# Altium integrated library TI Power Management Power Modules.IntLib: 831 symbols (part 24 of 44)
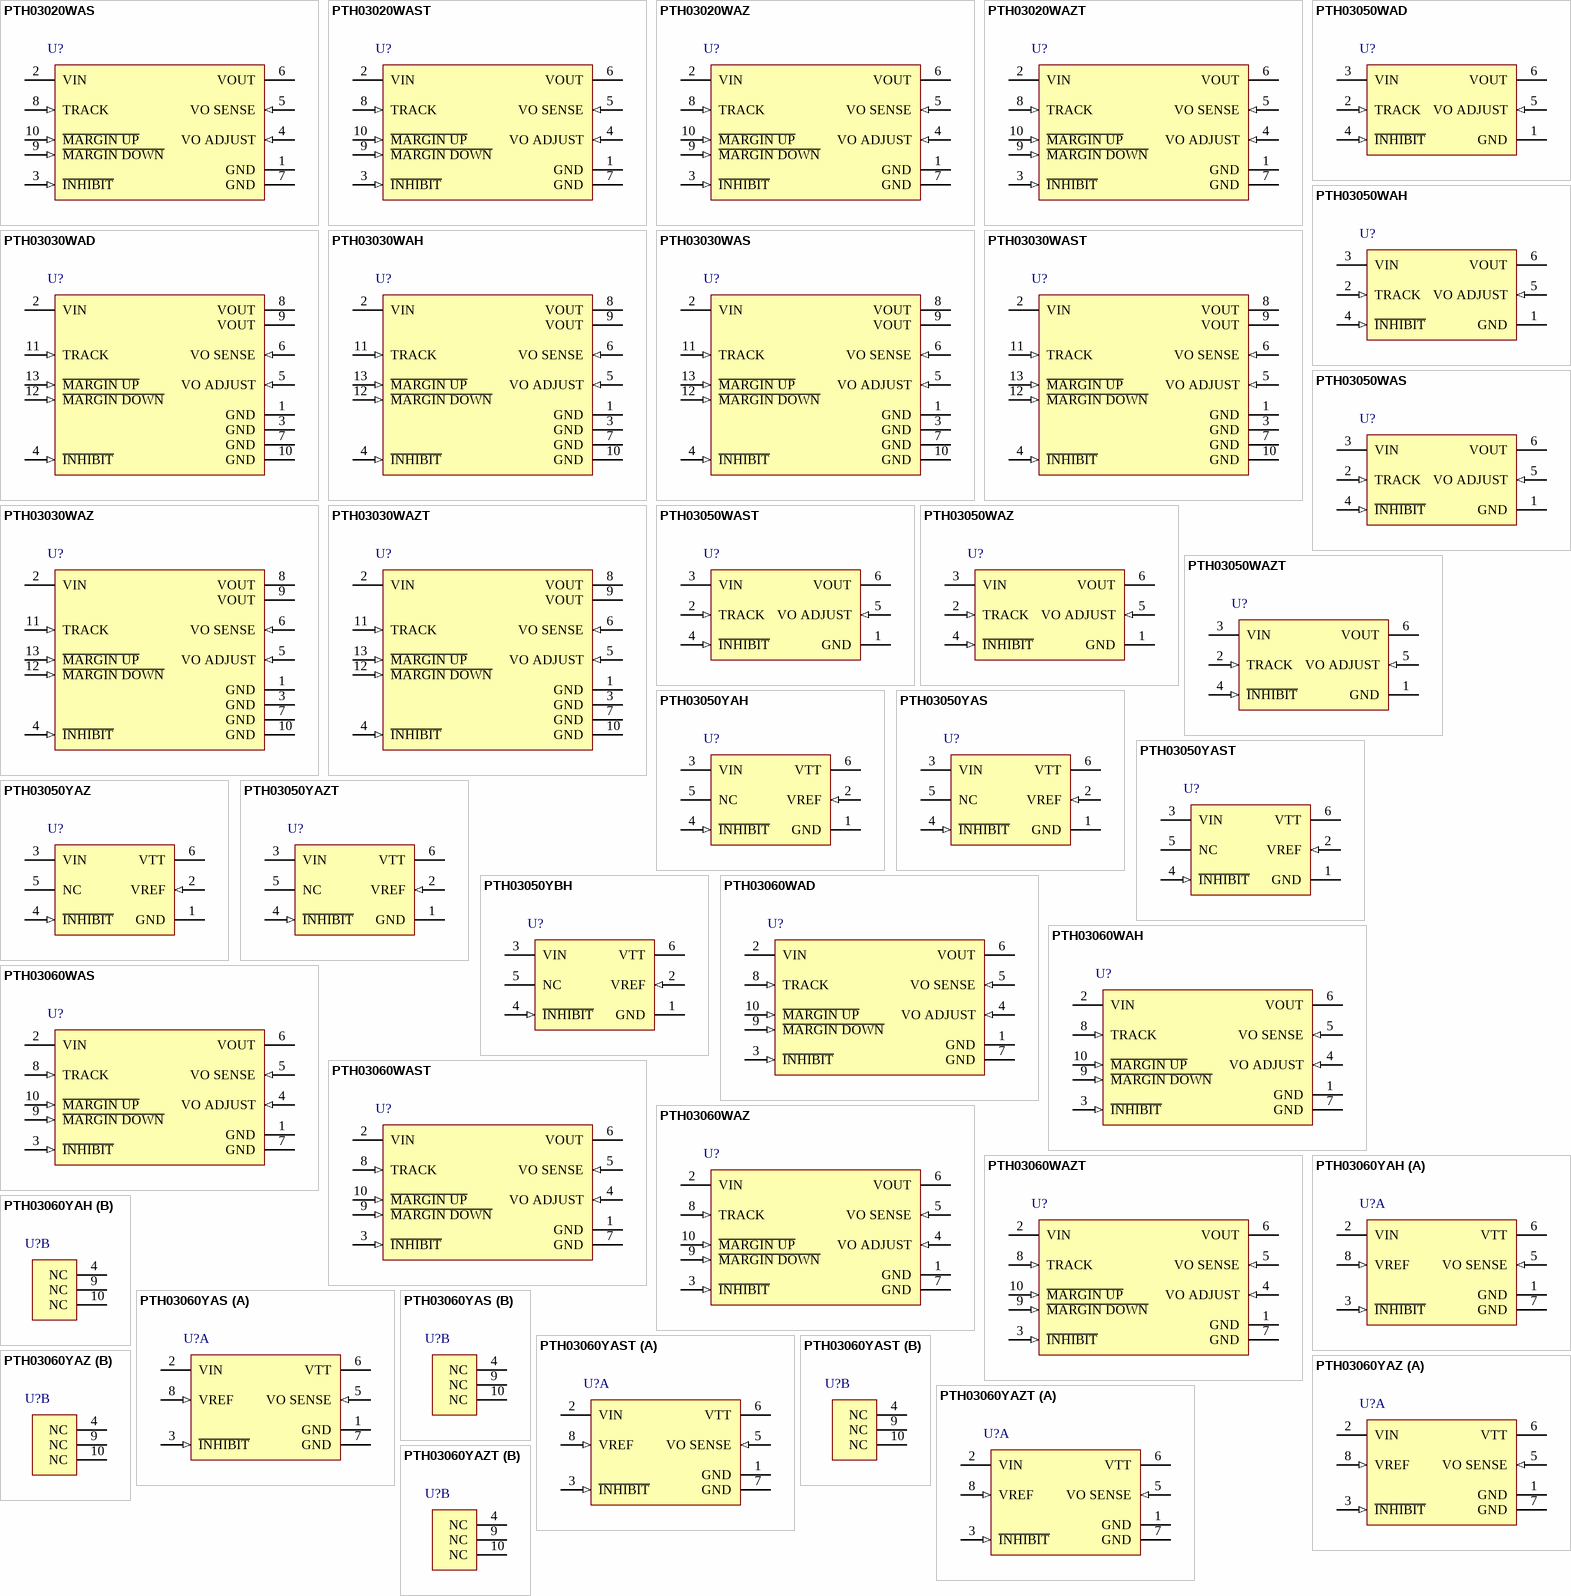
[diagram p46: symbols PTH03020WAS to PTH03060YAZT]

## PTH03060WAS
designator U?
10 A, 3.3 V Input Non-Isolated Wide Adjust Module, -40 to 85 degC, 10-pin Module (EUY10); Manufacturer: Texas Instruments; PartNumber: PTH03060WAS; Eco-Plan: TBD; Iout(Max)(A): 10; Regulated Outputs(#): 1; SubFamily: Non-Isolated POL; Vin(Max)(V): 3.65; Vin(Min)(V): 2.95; VO Adjustable: TRUE; Vout(Max)(V): 2.5; Vout(Min)(V): 0.8; DatasheetVersion: SLTS215B; PackageVersion: 4205249-3/B; PackageReference: EUY10; PackageDescription: 10-Pin Plastic Special Shape, Body 15.75 x 25.27 mm; Supplier 1: Digi-Key; Supplier Part Number 1: 296-20386-ND; Supplier 2: Mouser; Supplier Part Number 2: 595-PTH03060WAS; Mounting Technology: Surface Mount; ComponentLink1Description: Manufacturer URL; ComponentLink1URL: http://www.ti.com/; ComponentLink2Description: Datasheet; ComponentLink2URL: http://www.ti.com/general/docs/lit/getliterature.tsp?genericPartNumber=PTH03060W&fileType=pdf; ComponentLink3Description: Package Specification; ComponentLink3URL: http://www.ti.com/lit/ml/mpds145a/mpds145a.pdf; ComponentLink4Description: URL Link1; ComponentLink4URL: Samples URL:http://www.ti.com/product/pth03060w#samples
footprint TI-EUY10_V (Module, 10-Leads, Body 25.27x15.75mm)
pins: 1 GND (power) "This is the common ground connection for the Vin and Vout power connections. It is also the 0 VDC reference for the control inputs", 2 VIN (power) "The positive input voltage power node to the module, which is referenced to common GND.", 3 ~{INHIBIT} (in) "The Inhibit pin is an open-collector/drain negative logic input that is referenced to GND. Applying a lowlevel ground signal to this input disables the module’s output and turns off the output voltage. When the Inhibit (See Datasheet)", 4 VO ADJUST (in) "A 0.1 W 1 % resistor must be directly connected between this pin and pin 7 (GND) to set the output voltage to a value higher than 0.8 V. The temperature stability of the resistor should be 100 ppm/degreesC (or better). The (See Datasheet)", 5 VO SENSE (in) "The sense input allows the regulation circuit to compensate for voltage drop between the module and the load. For optimal voltage accuracy Vo Sense should be connected to Vout. It can also be left disconnected.", 6 VOUT (power) "The regulated positive power output with respect to the GND node.", 7 GND (power) "This is the common ground connection for the Vin and Vout power connections. It is also the 0 VDC reference for the control inputs.", 8 TRACK (in) "This is an analog control input that enables the output voltage to follow an external voltage. This pin becomes active typically 20 ms after the input voltage has been applied, and allows direct control of the output voltage (See Datasheet)", 9 ~{MARGIN DOWN} (in) "When this input is asserted to GND, the output voltage is decreased by 5% from the nominal. The input requires an open-collector (open-drain) interface. It is not TTL compatible. A lower percent change can be accomodated (See Datasheet)", 10 ~{MARGIN UP} (in) "When this input is asserted to GND, the output voltage is increased by 5%. The input requires an open-collector (open-drain) interface. It is not TTL compatible. The percent change can be reduced with a series resistor. For (See Datasheet)"

## PTH03060WAST
designator U?
10 A, 3.3 V Input Non-Isolated Wide Adjust Module, -40 to 85 degC, 10-pin Module (EUY10); Manufacturer: Texas Instruments; PartNumber: PTH03060WAST; Eco-Plan: TBD; Iout(Max)(A): 10; Regulated Outputs(#): 1; SubFamily: Non-Isolated POL; Vin(Max)(V): 3.65; Vin(Min)(V): 2.95; VO Adjustable: TRUE; Vout(Max)(V): 2.5; Vout(Min)(V): 0.8; DatasheetVersion: SLTS215B; PackageVersion: 4205249-3/B; PackageReference: EUY10; PackageDescription: 10-Pin Plastic Special Shape, Body 15.75 x 25.27 mm; Supplier 1: Digi-Key; Supplier Part Number 1: PTH03060WAST-ND; Supplier 2: Newark; Supplier Part Number 2: 01J0628; Supplier 3: Mouser; Supplier Part Number 3: 595-PTH03060WAST; Mounting Technology: Surface Mount; ComponentLink1Description: Manufacturer URL; ComponentLink1URL: http://www.ti.com/; ComponentLink2Description: Datasheet; ComponentLink2URL: http://www.ti.com/general/docs/lit/getliterature.tsp?genericPartNumber=PTH03060W&fileType=pdf; ComponentLink3Description: Package Specification; ComponentLink3URL: http://www.ti.com/lit/ml/mpds145a/mpds145a.pdf; ComponentLink4Description: URL Link1; ComponentLink4URL: Samples URL:http://www.ti.com/product/pth03060w#samples
footprint TI-EUY10_V (Module, 10-Leads, Body 25.27x15.75mm)
pins: 1 GND (power) "This is the common ground connection for the Vin and Vout power connections. It is also the 0 VDC reference for the control inputs", 2 VIN (power) "The positive input voltage power node to the module, which is referenced to common GND.", 3 ~{INHIBIT} (in) "The Inhibit pin is an open-collector/drain negative logic input that is referenced to GND. Applying a lowlevel ground signal to this input disables the module’s output and turns off the output voltage. When the Inhibit (See Datasheet)", 4 VO ADJUST (in) "A 0.1 W 1 % resistor must be directly connected between this pin and pin 7 (GND) to set the output voltage to a value higher than 0.8 V. The temperature stability of the resistor should be 100 ppm/degreesC (or better). The (See Datasheet)", 5 VO SENSE (in) "The sense input allows the regulation circuit to compensate for voltage drop between the module and the load. For optimal voltage accuracy Vo Sense should be connected to Vout. It can also be left disconnected.", 6 VOUT (power) "The regulated positive power output with respect to the GND node.", 7 GND (power) "This is the common ground connection for the Vin and Vout power connections. It is also the 0 VDC reference for the control inputs.", 8 TRACK (in) "This is an analog control input that enables the output voltage to follow an external voltage. This pin becomes active typically 20 ms after the input voltage has been applied, and allows direct control of the output voltage (See Datasheet)", 9 ~{MARGIN DOWN} (in) "When this input is asserted to GND, the output voltage is decreased by 5% from the nominal. The input requires an open-collector (open-drain) interface. It is not TTL compatible. A lower percent change can be accomodated (See Datasheet)", 10 ~{MARGIN UP} (in) "When this input is asserted to GND, the output voltage is increased by 5%. The input requires an open-collector (open-drain) interface. It is not TTL compatible. The percent change can be reduced with a series resistor. For (See Datasheet)"

## PTH03060WAZ
designator U?
10 A, 3.3 V Input Non-Isolated Wide Adjust Module, -40 to 85 degC, 10-pin Module (EUY10), Pb-Free (RoHS); Manufacturer: Texas Instruments; PartNumber: PTH03060WAZ; Iout(Max)(A): 10; Regulated Outputs(#): 1; SubFamily: Non-Isolated POL; Vin(Max)(V): 3.65; Vin(Min)(V): 2.95; VO Adjustable: TRUE; Vout(Max)(V): 2.5; Vout(Min)(V): 0.8; DatasheetVersion: SLTS215B; PackageVersion: 4205249-3/B; PackageReference: EUY10; PackageDescription: 10-Pin Plastic Special Shape, Body 15.75 x 25.27 mm; Supplier 1: Digi-Key; Supplier Part Number 1: 296-20387-ND; Supplier 2: Farnell; Supplier Part Number 2: 1103276; Supplier 3: Newark; Supplier Part Number 3: 97K7857; Supplier 4: Newark; Supplier Part Number 4: 37K0707; Supplier 5: Mouser; Supplier Part Number 5: 595-PTH03060WAZ; Eco-Plan: Pb-Free (RoHS); Mounting Technology: Surface Mount; ComponentLink1Description: Manufacturer URL; ComponentLink1URL: http://www.ti.com/; ComponentLink2Description: Datasheet; ComponentLink2URL: http://www.ti.com/general/docs/lit/getliterature.tsp?genericPartNumber=PTH03060W&fileType=pdf; ComponentLink3Description: Package Specification; ComponentLink3URL: http://www.ti.com/lit/ml/mpds145a/mpds145a.pdf; ComponentLink4Description: URL Link1; ComponentLink4URL: Samples URL:http://www.ti.com/product/pth03060w#samples
footprint TI-EUY10_V (Module, 10-Leads, Body 25.27x15.75mm)
pins: 1 GND (power) "This is the common ground connection for the Vin and Vout power connections. It is also the 0 VDC reference for the control inputs", 2 VIN (power) "The positive input voltage power node to the module, which is referenced to common GND.", 3 ~{INHIBIT} (in) "The Inhibit pin is an open-collector/drain negative logic input that is referenced to GND. Applying a lowlevel ground signal to this input disables the module’s output and turns off the output voltage. When the Inhibit (See Datasheet)", 4 VO ADJUST (in) "A 0.1 W 1 % resistor must be directly connected between this pin and pin 7 (GND) to set the output voltage to a value higher than 0.8 V. The temperature stability of the resistor should be 100 ppm/degreesC (or better). The (See Datasheet)", 5 VO SENSE (in) "The sense input allows the regulation circuit to compensate for voltage drop between the module and the load. For optimal voltage accuracy Vo Sense should be connected to Vout. It can also be left disconnected.", 6 VOUT (power) "The regulated positive power output with respect to the GND node.", 7 GND (power) "This is the common ground connection for the Vin and Vout power connections. It is also the 0 VDC reference for the control inputs.", 8 TRACK (in) "This is an analog control input that enables the output voltage to follow an external voltage. This pin becomes active typically 20 ms after the input voltage has been applied, and allows direct control of the output voltage (See Datasheet)", 9 ~{MARGIN DOWN} (in) "When this input is asserted to GND, the output voltage is decreased by 5% from the nominal. The input requires an open-collector (open-drain) interface. It is not TTL compatible. A lower percent change can be accomodated (See Datasheet)", 10 ~{MARGIN UP} (in) "When this input is asserted to GND, the output voltage is increased by 5%. The input requires an open-collector (open-drain) interface. It is not TTL compatible. The percent change can be reduced with a series resistor. For (See Datasheet)"

## PTH03060WAZT
designator U?
10 A, 3.3 V Input Non-Isolated Wide Adjust Module, -40 to 85 degC, 10-pin Module (EUY10), Pb-Free (RoHS); Manufacturer: Texas Instruments; PartNumber: PTH03060WAZT; Iout(Max)(A): 10; Regulated Outputs(#): 1; SubFamily: Non-Isolated POL; Vin(Max)(V): 3.65; Vin(Min)(V): 2.95; VO Adjustable: TRUE; Vout(Max)(V): 2.5; Vout(Min)(V): 0.8; DatasheetVersion: SLTS215B; PackageVersion: 4205249-3/B; PackageReference: EUY10; PackageDescription: 10-Pin Plastic Special Shape, Body 15.75 x 25.27 mm; Supplier 1: Digi-Key; Supplier Part Number 1: PTH03060WAZT-ND; Supplier 2: Newark; Supplier Part Number 2: 37K0708; Supplier 3: Mouser; Supplier Part Number 3: 595-PTH03060WAZT; Eco-Plan: Pb-Free (RoHS); Mounting Technology: Surface Mount; ComponentLink1Description: Manufacturer URL; ComponentLink1URL: http://www.ti.com/; ComponentLink2Description: Datasheet; ComponentLink2URL: http://www.ti.com/general/docs/lit/getliterature.tsp?genericPartNumber=PTH03060W&fileType=pdf; ComponentLink3Description: Package Specification; ComponentLink3URL: http://www.ti.com/lit/ml/mpds145a/mpds145a.pdf; ComponentLink4Description: URL Link1; ComponentLink4URL: Samples URL:http://www.ti.com/product/tps55010#samples
footprint TI-EUY10_V (Module, 10-Leads, Body 25.27x15.75mm)
pins: 1 GND (power) "This is the common ground connection for the Vin and Vout power connections. It is also the 0 VDC reference for the control inputs", 2 VIN (power) "The positive input voltage power node to the module, which is referenced to common GND.", 3 ~{INHIBIT} (in) "The Inhibit pin is an open-collector/drain negative logic input that is referenced to GND. Applying a lowlevel ground signal to this input disables the module’s output and turns off the output voltage. When the Inhibit (See Datasheet)", 4 VO ADJUST (in) "A 0.1 W 1 % resistor must be directly connected between this pin and pin 7 (GND) to set the output voltage to a value higher than 0.8 V. The temperature stability of the resistor should be 100 ppm/degreesC (or better). The (See Datasheet)", 5 VO SENSE (in) "The sense input allows the regulation circuit to compensate for voltage drop between the module and the load. For optimal voltage accuracy Vo Sense should be connected to Vout. It can also be left disconnected.", 6 VOUT (power) "The regulated positive power output with respect to the GND node.", 7 GND (power) "This is the common ground connection for the Vin and Vout power connections. It is also the 0 VDC reference for the control inputs.", 8 TRACK (in) "This is an analog control input that enables the output voltage to follow an external voltage. This pin becomes active typically 20 ms after the input voltage has been applied, and allows direct control of the output voltage (See Datasheet)", 9 ~{MARGIN DOWN} (in) "When this input is asserted to GND, the output voltage is decreased by 5% from the nominal. The input requires an open-collector (open-drain) interface. It is not TTL compatible. A lower percent change can be accomodated (See Datasheet)", 10 ~{MARGIN UP} (in) "When this input is asserted to GND, the output voltage is increased by 5%. The input requires an open-collector (open-drain) interface. It is not TTL compatible. The percent change can be reduced with a series resistor. For (See Datasheet)"

## PTH03060YAH
designator U?
10 A 3.3 V Input Bus Termination Power Module for DDR / QDR Memory, -40 to 85 degC, 10-pin Module (EUW10), Pb-Free (RoHS); Manufacturer: Texas Instruments; PartNumber: PTH03060YAH; Iout(Max)(A): 10; Regulated Outputs(#): 1; SubFamily: Non-Isolated POL; Vin(Max)(V): 3.65; Vin(Min)(V): 2.95; Vout(Max)(V): 1.8; Vout(Min)(V): 0.55; DatasheetVersion: SLTS222A; PackageVersion: 4205248-3/B; PackageReference: EUW10; PackageDescription: 10-Pin Plastic Special Shape, Body 15.75 x 25.27 mm; Supplier 1: Digi-Key; Supplier Part Number 1: 296-19805-ND; Supplier 2: Newark; Supplier Part Number 2: 10J9544; Supplier 3: Mouser; Supplier Part Number 3: 595-PTH03060YAH; Eco-Plan: Pb-Free (RoHS); Mounting Technology: Through Hole; ComponentLink1Description: Manufacturer URL; ComponentLink1URL: http://www.ti.com/; ComponentLink2Description: Datasheet; ComponentLink2URL: http://www.ti.com/general/docs/lit/getliterature.tsp?genericPartNumber=PTH03060Y&fileType=pdf; ComponentLink3Description: Package Specification; ComponentLink3URL: http://www.ti.com/litv/pdf/mpds144a; ComponentLink4Description: URL Link1; ComponentLink4URL: Samples URL:http://www.ti.com/product/pth03060y#samples
footprint TI-EUW10_V (Module, 10-Leads, Body 25.27x15.75mm)
part A pins: 1 GND (power) "This is the common ground connection for the VIN and VTT power connections. It is also the 0-VDC reference for the control inputs.", 2 VIN (power) "The positive input voltage power node to the module, which is referenced to common GND.", 3 ~{INHIBIT} (in) "The Inhibit pin is an open-collector/drain negative logic input that is referenced to GND. Applying a low-level ground signal to this input turns off the output voltage, VTT. Although the module is inhibited, a voltage, VDDQ (See Datasheet)", 5 VO SENSE (in) "The sense input allows the regulation circuit to compensate for voltage drop between the module and the load. For optimal voltage accuracy Vo Sense should be connected to VTT.", 6 VTT (power) "This is the regulated power output from the module with respect to the GND node, and the tracking termination supply for the application data and address buses. It is precisely regulated to the voltage applied to the (See Datasheet)", 7 GND (power) "This is the common ground connection for the VIN and VTT power connections. It is also the 0-VDC reference for the control inputs.", 8 VREF (in) "The module senses the voltage at this input to regulate the output voltage, VTT. The voltage at VREF is also the reference voltage for the system bus receiver comparators. It is normally set to precisely half the bus driver (See Datasheet)"
part B pins: 4 NC "No connect", 9 NC "No connect", 10 NC "No connect"

## PTH03060YAS
designator U?
10 A, 3.3 V Input Bus Termination Power Module for DDR / QDR Memory, -40 to 85 degC, 10-pin Module (EUY10); Manufacturer: Texas Instruments; PartNumber: PTH03060YAS; Eco-Plan: TBD; Iout(Max)(A): 10; Regulated Outputs(#): 1; SubFamily: Non-Isolated POL; Vin(Max)(V): 3.65; Vin(Min)(V): 2.95; Vout(Max)(V): 1.8; Vout(Min)(V): 0.55; DatasheetVersion: SLTS222A; PackageVersion: 4205249-3/B; PackageReference: EUY10; PackageDescription: 10-Pin Plastic Special Shape, Body 15.75 x 25.27 mm; Supplier 1: Digi-Key; Supplier Part Number 1: 296-20388-ND; Supplier 2: Newark; Supplier Part Number 2: 10J9545; Supplier 3: Mouser; Supplier Part Number 3: 595-PTH03060YAS; Mounting Technology: Surface Mount; ComponentLink1Description: Manufacturer URL; ComponentLink1URL: http://www.ti.com/; ComponentLink2Description: Datasheet; ComponentLink2URL: http://www.ti.com/general/docs/lit/getliterature.tsp?genericPartNumber=PTH03060Y&fileType=pdf; ComponentLink3Description: Package Specification; ComponentLink3URL: http://www.ti.com/lit/ml/mpds145a/mpds145a.pdf; ComponentLink4Description: URL Link1; ComponentLink4URL: Samples URL:http://www.ti.com/product/pth03060y#samples
footprint TI-EUY10_V (Module, 10-Leads, Body 25.27x15.75mm)
part A pins: 1 GND (power) "This is the common ground connection for the VIN and VTT power connections. It is also the 0-VDC reference for the control inputs.", 2 VIN (power) "The positive input voltage power node to the module, which is referenced to common GND.", 3 ~{INHIBIT} (in) "The Inhibit pin is an open-collector/drain negative logic input that is referenced to GND. Applying a low-level ground signal to this input turns off the output voltage, VTT. Although the module is inhibited, a voltage, VDDQ (See Datasheet)", 5 VO SENSE (in) "The sense input allows the regulation circuit to compensate for voltage drop between the module and the load. For optimal voltage accuracy Vo Sense should be connected to VTT.", 6 VTT (power) "This is the regulated power output from the module with respect to the GND node, and the tracking termination supply for the application data and address buses. It is precisely regulated to the voltage applied to the (See Datasheet)", 7 GND (power) "This is the common ground connection for the VIN and VTT power connections. It is also the 0-VDC reference for the control inputs.", 8 VREF (in) "The module senses the voltage at this input to regulate the output voltage, VTT. The voltage at VREF is also the reference voltage for the system bus receiver comparators. It is normally set to precisely half the bus driver (See Datasheet)"
part B pins: 4 NC "No connect", 9 NC "No connect", 10 NC "No connect"

## PTH03060YAST
designator U?
10 A 3.3 V Input Bus Termination Power Module for DDR / QDR Memory, -40 to 85 degC, 10-pin Module (EUY10); Manufacturer: Texas Instruments; PartNumber: PTH03060YAST; Eco-Plan: TBD; Iout(Max)(A): 10; Regulated Outputs(#): 1; SubFamily: Non-Isolated POL; Vin(Max)(V): 3.65; Vin(Min)(V): 2.95; Vout(Max)(V): 1.8; Vout(Min)(V): 0.55; DatasheetVersion: SLTS222A; PackageVersion: 4205249-3/B; PackageReference: EUY10; PackageDescription: 10-Pin Plastic Special Shape, Body 15.75 x 25.27 mm; Supplier 1: Digi-Key; Supplier Part Number 1: PTH03060YAST-ND; Supplier 2: Newark; Supplier Part Number 2: 10J9546; Supplier 3: Mouser; Supplier Part Number 3: 595-PTH03060YAST; Mounting Technology: Surface Mount; ComponentLink1Description: Manufacturer URL; ComponentLink1URL: http://www.ti.com/; ComponentLink2Description: Datasheet; ComponentLink2URL: http://www.ti.com/general/docs/lit/getliterature.tsp?genericPartNumber=PTH03060Y&fileType=pdf; ComponentLink3Description: Package Specification; ComponentLink3URL: http://www.ti.com/lit/ml/mpds145a/mpds145a.pdf; ComponentLink4Description: URL Link1; ComponentLink4URL: Samples URL:http://www.ti.com/product/pth03060y#samples
footprint TI-EUY10_V (Module, 10-Leads, Body 25.27x15.75mm)
part A pins: 1 GND (power) "This is the common ground connection for the VIN and VTT power connections. It is also the 0-VDC reference for the control inputs.", 2 VIN (power) "The positive input voltage power node to the module, which is referenced to common GND.", 3 ~{INHIBIT} (in) "The Inhibit pin is an open-collector/drain negative logic input that is referenced to GND. Applying a low-level ground signal to this input turns off the output voltage, VTT. Although the module is inhibited, a voltage, VDDQ (See Datasheet)", 5 VO SENSE (in) "The sense input allows the regulation circuit to compensate for voltage drop between the module and the load. For optimal voltage accuracy Vo Sense should be connected to VTT.", 6 VTT (power) "This is the regulated power output from the module with respect to the GND node, and the tracking termination supply for the application data and address buses. It is precisely regulated to the voltage applied to the (See Datasheet)", 7 GND (power) "This is the common ground connection for the VIN and VTT power connections. It is also the 0-VDC reference for the control inputs.", 8 VREF (in) "The module senses the voltage at this input to regulate the output voltage, VTT. The voltage at VREF is also the reference voltage for the system bus receiver comparators. It is normally set to precisely half the bus driver (See Datasheet)"
part B pins: 4 NC "No connect", 9 NC "No connect", 10 NC "No connect"

## PTH03060YAZ
designator U?
10 A 3.3 V Input Bus Termination Power Module for DDR / QDR Memory, -40 to 85 degC, 10-pin Module (EUY10), Pb-Free (RoHS); Manufacturer: Texas Instruments; PartNumber: PTH03060YAZ; Iout(Max)(A): 10; Regulated Outputs(#): 1; SubFamily: Non-Isolated POL; Vin(Max)(V): 3.65; Vin(Min)(V): 2.95; Vout(Max)(V): 1.8; Vout(Min)(V): 0.55; DatasheetVersion: SLTS222A; PackageVersion: 4205249-3/B; PackageReference: EUY10; PackageDescription: 10-Pin Plastic Special Shape, Body 15.75 x 25.27 mm; Supplier 1: Digi-Key; Supplier Part Number 1: 296-20389-ND; Supplier 2: Mouser; Supplier Part Number 2: 595-PTH03060YAZ; Eco-Plan: Pb-Free (RoHS); Mounting Technology: Surface Mount; ComponentLink1Description: Manufacturer URL; ComponentLink1URL: http://www.ti.com/; ComponentLink2Description: Datasheet; ComponentLink2URL: http://www.ti.com/general/docs/lit/getliterature.tsp?genericPartNumber=PTH03060Y&fileType=pdf; ComponentLink3Description: Package Specification; ComponentLink3URL: http://www.ti.com/lit/ml/mpds145a/mpds145a.pdf; ComponentLink4Description: URL Link1; ComponentLink4URL: Samples URL:http://www.ti.com/product/pth03060y#samples
footprint TI-EUY10_V (Module, 10-Leads, Body 25.27x15.75mm)
part A pins: 1 GND (power) "This is the common ground connection for the VIN and VTT power connections. It is also the 0-VDC reference for the control inputs.", 2 VIN (power) "The positive input voltage power node to the module, which is referenced to common GND.", 3 ~{INHIBIT} (in) "The Inhibit pin is an open-collector/drain negative logic input that is referenced to GND. Applying a low-level ground signal to this input turns off the output voltage, VTT. Although the module is inhibited, a voltage, VDDQ (See Datasheet)", 5 VO SENSE (in) "The sense input allows the regulation circuit to compensate for voltage drop between the module and the load. For optimal voltage accuracy Vo Sense should be connected to VTT.", 6 VTT (power) "This is the regulated power output from the module with respect to the GND node, and the tracking termination supply for the application data and address buses. It is precisely regulated to the voltage applied to the (See Datasheet)", 7 GND (power) "This is the common ground connection for the VIN and VTT power connections. It is also the 0-VDC reference for the control inputs.", 8 VREF (in) "The module senses the voltage at this input to regulate the output voltage, VTT. The voltage at VREF is also the reference voltage for the system bus receiver comparators. It is normally set to precisely half the bus driver (See Datasheet)"
part B pins: 4 NC "No connect", 9 NC "No connect", 10 NC "No connect"

## PTH03060YAZT
designator U?
10 A 3.3 V Input Bus Termination Power Module for DDR / QDR Memory, -40 to 85 degC, 10-pin Module (EUY10), Pb-Free (RoHS); Manufacturer: Texas Instruments; PartNumber: PTH03060YAZT; Iout(Max)(A): 10; Regulated Outputs(#): 1; SubFamily: Non-Isolated POL; Vin(Max)(V): 3.65; Vin(Min)(V): 2.95; Vout(Max)(V): 1.8; Vout(Min)(V): 0.55; DatasheetVersion: SLTS222A; PackageVersion: 4205249-3/B; PackageReference: EUY10; PackageDescription: 10-Pin Plastic Special Shape, Body 15.75 x 25.27 mm; Supplier 1: Digi-Key; Supplier Part Number 1: PTH03060YAZT-ND; Supplier 2: Newark; Supplier Part Number 2: 37K0710; Supplier 3: Mouser; Supplier Part Number 3: 595-PTH03060YAZT; Eco-Plan: Pb-Free (RoHS); Mounting Technology: Surface Mount; ComponentLink1Description: Manufacturer URL; ComponentLink1URL: http://www.ti.com/; ComponentLink2Description: Datasheet; ComponentLink2URL: http://www.ti.com/general/docs/lit/getliterature.tsp?genericPartNumber=PTH03060Y&fileType=pdf; ComponentLink3Description: Package Specification; ComponentLink3URL: http://www.ti.com/lit/ml/mpds145a/mpds145a.pdf; ComponentLink4Description: URL Link1; ComponentLink4URL: Samples URL:http://www.ti.com/product/pth03060y#samples
footprint TI-EUY10_V (Module, 10-Leads, Body 25.27x15.75mm)
part A pins: 1 GND (power) "This is the common ground connection for the VIN and VTT power connections. It is also the 0-VDC reference for the control inputs.", 2 VIN (power) "The positive input voltage power node to the module, which is referenced to common GND.", 3 ~{INHIBIT} (in) "The Inhibit pin is an open-collector/drain negative logic input that is referenced to GND. Applying a low-level ground signal to this input turns off the output voltage, VTT. Although the module is inhibited, a voltage, VDDQ (See Datasheet)", 5 VO SENSE (in) "The sense input allows the regulation circuit to compensate for voltage drop between the module and the load. For optimal voltage accuracy Vo Sense should be connected to VTT.", 6 VTT (power) "This is the regulated power output from the module with respect to the GND node, and the tracking termination supply for the application data and address buses. It is precisely regulated to the voltage applied to the (See Datasheet)", 7 GND (power) "This is the common ground connection for the VIN and VTT power connections. It is also the 0-VDC reference for the control inputs.", 8 VREF (in) "The module senses the voltage at this input to regulate the output voltage, VTT. The voltage at VREF is also the reference voltage for the system bus receiver comparators. It is normally set to precisely half the bus driver (See Datasheet)"
part B pins: 4 NC "No connect", 9 NC "No connect", 10 NC "No connect"

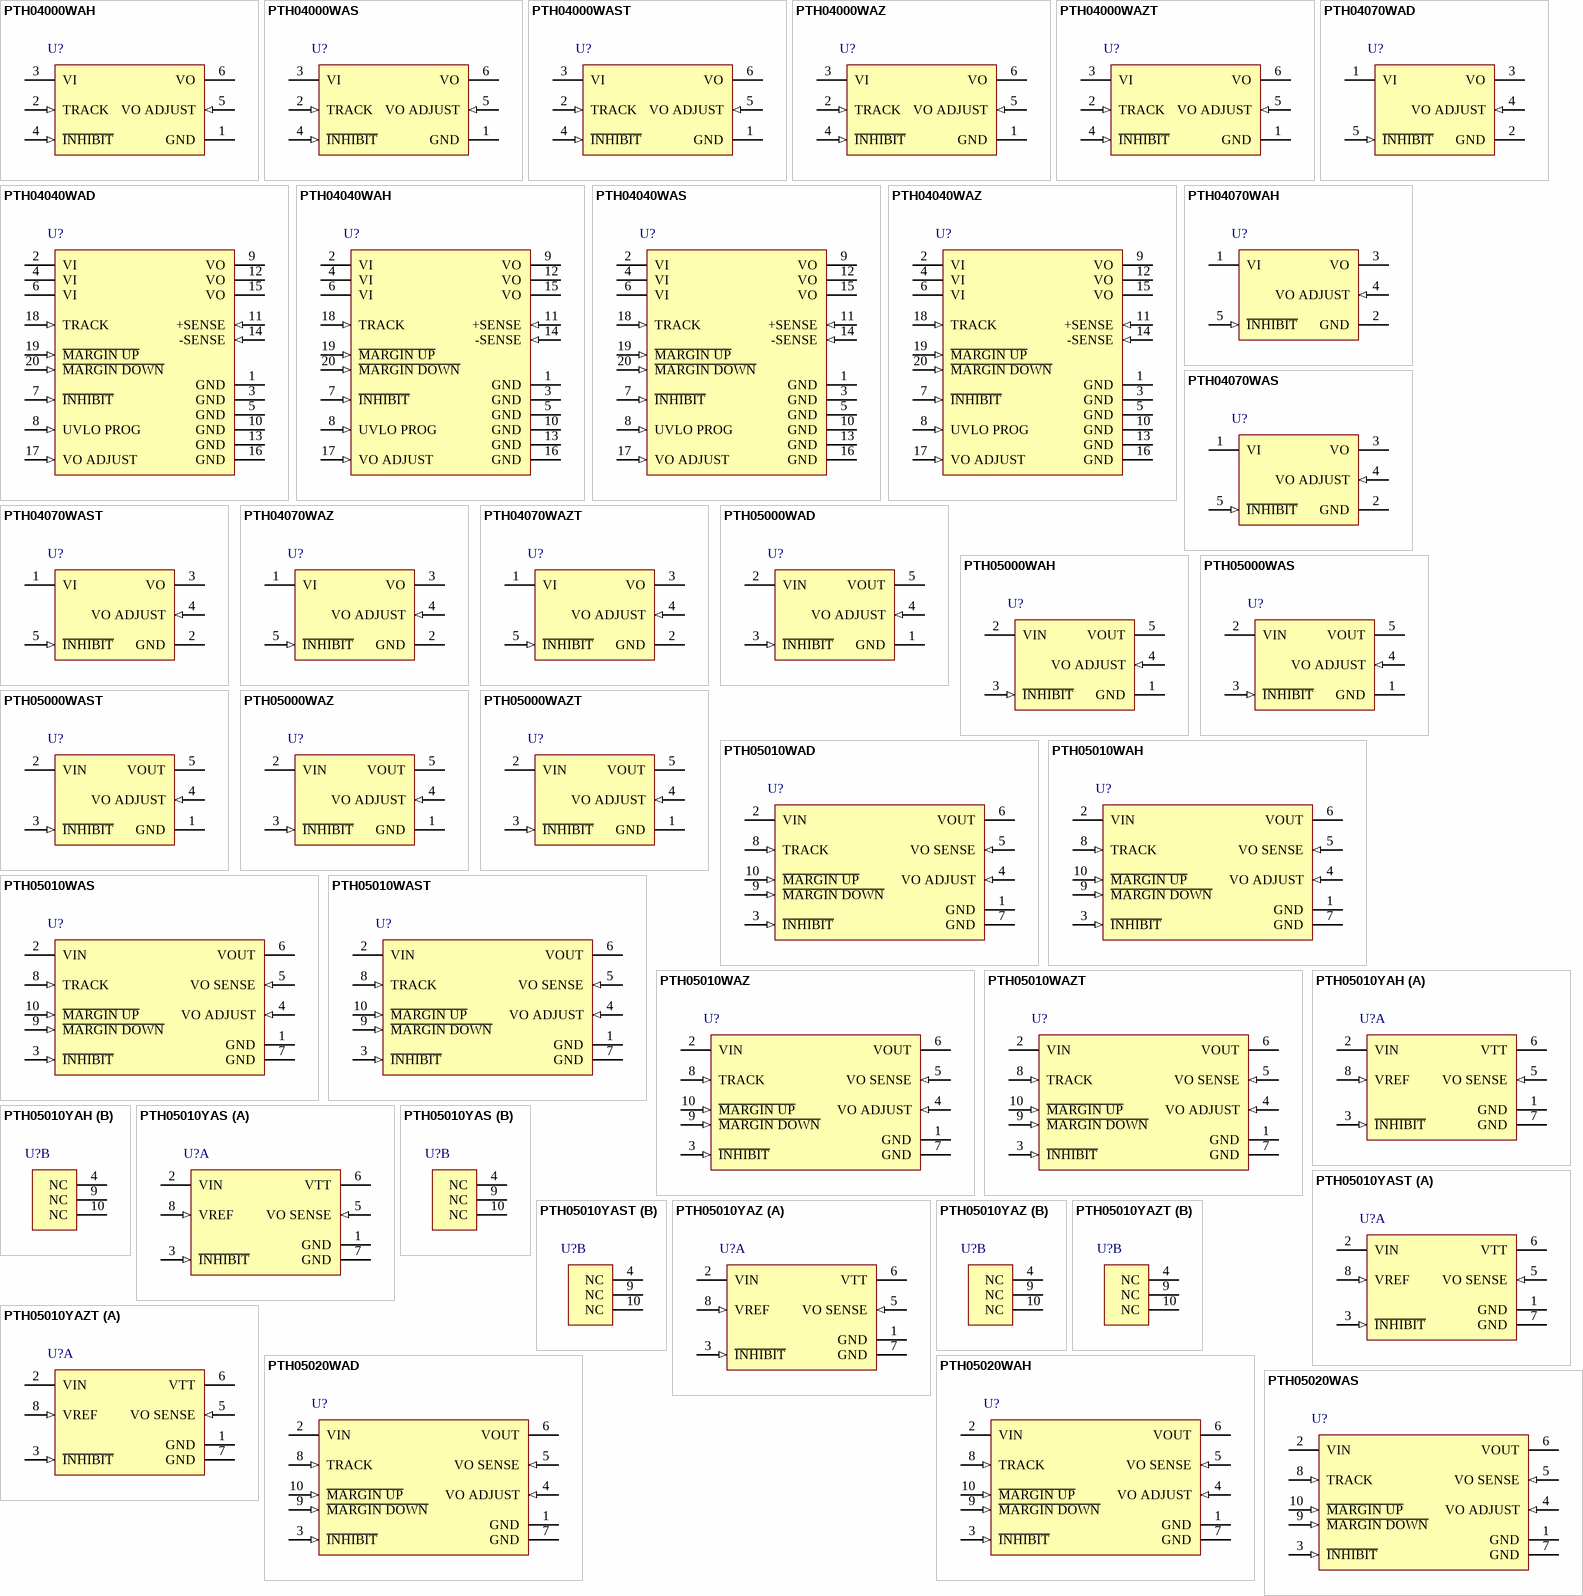
[diagram p14: symbols PTH04000WAH to PTH05020WAS]

## PTH04000WAH
designator U?
3 A, 3.3 / 5 V Input Adjustable Switching Regulator with Auto-Track Sequencing, -40 to 85 degC, 6-pin Module (EUS6), Pb-Free (RoHS); Manufacturer: Texas Instruments; PartNumber: PTH04000WAH; Iout(Max)(A): 3; Regulated Outputs(#): 1; SubFamily: Non-Isolated POL; Vin(Max)(V): 5.5; VO Adjustable: TRUE; Vout(Max)(V): 3.6; Vout(Min)(V): 0.9; DatasheetVersion: SLTS247B; PackageVersion: 4204990-3/C; PackageReference: EUS6; PackageDescription: 6-Pin Plastic Special Shape, Body 12.57 x 18.92 mm; Supplier 1: Digi-Key; Supplier Part Number 1: 296-20390-ND; Supplier 2: Newark; Supplier Part Number 2: 43K4057; Supplier 3: Mouser; Supplier Part Number 3: 595-PTH04000WAH; Eco-Plan: Pb-Free (RoHS); Vin(Min)(V): 3; Mounting Technology: Through Hole; ComponentLink1Description: Manufacturer URL; ComponentLink1URL: http://www.ti.com/; ComponentLink2Description: Datasheet; ComponentLink2URL: http://www.ti.com/general/docs/lit/getliterature.tsp?genericPartNumber=PTH04000W&fileType=pdf; ComponentLink3Description: Package Specification; ComponentLink3URL: http://www.ti.com/litv/pdf/mpds213; ComponentLink4Description: URL Link1; ComponentLink4URL: Samples URL:http://www.ti.com/product/pth04000w#samples
footprint TI-EUS6_V (Module, 6-Leads, Body 18.92x12.57mm)
pins: 1 GND (power) "This is the common ground connection for the VI and VO power connections. It is also the 0-VDC reference for the Inhibit , VO Adjust, and Track control inputs.", 2 TRACK (in) "This is an analog control input that enables the output voltage to follow an external voltage. This pin becomes active typically 20 ms after the input voltage has been applied, and allows direct control of the output voltage (See Datasheet)", 3 VI (power) "The positive input voltage power node to the module, which is referenced to common GND.", 4 ~{INHIBIT} (in) "The Inhibit pin is an open-collector/drain-negative logic input that is referenced to GND. Applying a low-level ground signal to this input disables the module's output. When the Inhibit control is active, the input current (See Datasheet)", 5 VO ADJUST (in) "A 1% resistor must be connected between this pin and GND (pin 1) to set the output voltage of the module higher than 0.9 V. If left open-circuit, the output voltage defaults to this value. The temperature stability of the (See Datasheet)", 6 VO (power) "The regulated positive power output with respect to the GND node."

## PTH04000WAS
designator U?
3 A, 3.3 / 5 V Input Adjustable Switching Regulator with Auto-Track Sequencing, -40 to 85 degC, 6-pin Module (EUT6); Manufacturer: Texas Instruments; PartNumber: PTH04000WAS; Eco-Plan: TBD; Iout(Max)(A): 3; Regulated Outputs(#): 1; SubFamily: Non-Isolated POL; Vin(Max)(V): 5.5; VO Adjustable: TRUE; Vout(Max)(V): 3.6; Vout(Min)(V): 0.9; DatasheetVersion: SLTS247B; PackageVersion: 4204991-3/C; PackageReference: EUT6; PackageDescription: 6-Pin Plastic Special Shape, Body 12.57 x 18.92 mm; Supplier 1: Digi-Key; Supplier Part Number 1: 296-20391-ND; Supplier 2: Newark; Supplier Part Number 2: 43K4058; Supplier 3: Mouser; Supplier Part Number 3: 595-PTH04000WAS; Vin(Min)(V): 3; Mounting Technology: Surface Mount; ComponentLink1Description: Manufacturer URL; ComponentLink1URL: http://www.ti.com/; ComponentLink2Description: Datasheet; ComponentLink2URL: http://www.ti.com/general/docs/lit/getliterature.tsp?genericPartNumber=PTH04000W&fileType=pdf; ComponentLink3Description: Package Specification; ComponentLink3URL: http://www.ti.com/lit/ml/mpds214/mpds214.pdf; ComponentLink4Description: URL Link1; ComponentLink4URL: Samples URL:http://www.ti.com/product/pth04000w#samples
footprint TI-EUT6_V (Module, 6-Leads, Body 18.92x12.57mm)
pins: 1 GND (power) "This is the common ground connection for the VI and VO power connections. It is also the 0-VDC reference for the Inhibit , VO Adjust, and Track control inputs.", 2 TRACK (in) "This is an analog control input that enables the output voltage to follow an external voltage. This pin becomes active typically 20 ms after the input voltage has been applied, and allows direct control of the output voltage (See Datasheet)", 3 VI (power) "The positive input voltage power node to the module, which is referenced to common GND.", 4 ~{INHIBIT} (in) "The Inhibit pin is an open-collector/drain-negative logic input that is referenced to GND. Applying a low-level ground signal to this input disables the module's output. When the Inhibit control is active, the input current (See Datasheet)", 5 VO ADJUST (in) "A 1% resistor must be connected between this pin and GND (pin 1) to set the output voltage of the module higher than 0.9 V. If left open-circuit, the output voltage defaults to this value. The temperature stability of the (See Datasheet)", 6 VO (power) "The regulated positive power output with respect to the GND node."

## PTH04000WAST
designator U?
3 A, 3.3 / 5 V Input Adjustable Switching Regulator with Auto-Track Sequencing, -40 to 85 degC, 6-pin Module (EUT6); Manufacturer: Texas Instruments; PartNumber: PTH04000WAST; Eco-Plan: TBD; Iout(Max)(A): 3; Regulated Outputs(#): 1; SubFamily: Non-Isolated POL; Vin(Max)(V): 5.5; VO Adjustable: TRUE; Vout(Max)(V): 3.6; Vout(Min)(V): 0.9; DatasheetVersion: SLTS247B; PackageVersion: 4204991-3/C; PackageReference: EUT6; PackageDescription: 6-Pin Plastic Special Shape, Body 12.57 x 18.92 mm; Supplier 1: Digi-Key; Supplier Part Number 1: PTH04000WAST-ND; Supplier 2: Newark; Supplier Part Number 2: 43K4059; Supplier 3: Mouser; Supplier Part Number 3: 595-PTH04000WAST; Vin(Min)(V): 3; Mounting Technology: Surface Mount; ComponentLink1Description: Manufacturer URL; ComponentLink1URL: http://www.ti.com/; ComponentLink2Description: Datasheet; ComponentLink2URL: http://www.ti.com/general/docs/lit/getliterature.tsp?genericPartNumber=PTH04000W&fileType=pdf; ComponentLink3Description: Package Specification; ComponentLink3URL: http://www.ti.com/lit/ml/mpds214/mpds214.pdf; ComponentLink4Description: URL Link1; ComponentLink4URL: Samples URL:http://www.ti.com/product/pth04000w#samples
footprint TI-EUT6_V (Module, 6-Leads, Body 18.92x12.57mm)
pins: 1 GND (power) "This is the common ground connection for the VI and VO power connections. It is also the 0-VDC reference for the Inhibit , VO Adjust, and Track control inputs.", 2 TRACK (in) "This is an analog control input that enables the output voltage to follow an external voltage. This pin becomes active typically 20 ms after the input voltage has been applied, and allows direct control of the output voltage (See Datasheet)", 3 VI (power) "The positive input voltage power node to the module, which is referenced to common GND.", 4 ~{INHIBIT} (in) "The Inhibit pin is an open-collector/drain-negative logic input that is referenced to GND. Applying a low-level ground signal to this input disables the module's output. When the Inhibit control is active, the input current (See Datasheet)", 5 VO ADJUST (in) "A 1% resistor must be connected between this pin and GND (pin 1) to set the output voltage of the module higher than 0.9 V. If left open-circuit, the output voltage defaults to this value. The temperature stability of the (See Datasheet)", 6 VO (power) "The regulated positive power output with respect to the GND node."

## PTH04000WAZ
designator U?
3 A, 3.3 / 5 V Input Adjustable Switching Regulator with Auto-Track Sequencing, -40 to 85 degC, 6-pin Module (EUT6), Pb-Free (RoHS); Manufacturer: Texas Instruments; PartNumber: PTH04000WAZ; Iout(Max)(A): 3; Regulated Outputs(#): 1; SubFamily: Non-Isolated POL; Vin(Max)(V): 5.5; VO Adjustable: TRUE; Vout(Max)(V): 3.6; Vout(Min)(V): 0.9; DatasheetVersion: SLTS247B; PackageVersion: 4204991-3/C; PackageReference: EUT6; PackageDescription: 6-Pin Plastic Special Shape, Body 12.57 x 18.92 mm; Supplier 1: Digi-Key; Supplier Part Number 1: 296-20392-ND; Supplier 2: Newark; Supplier Part Number 2: 43K4060; Supplier 3: Mouser; Supplier Part Number 3: 595-PTH04000WAZ; Eco-Plan: Pb-Free (RoHS); Vin(Min)(V): 3; Mounting Technology: Surface Mount; ComponentLink1Description: Manufacturer URL; ComponentLink1URL: http://www.ti.com/; ComponentLink2Description: Datasheet; ComponentLink2URL: http://www.ti.com/general/docs/lit/getliterature.tsp?genericPartNumber=PTH04000W&fileType=pdf; ComponentLink3Description: Package Specification; ComponentLink3URL: http://www.ti.com/lit/ml/mpds214/mpds214.pdf; ComponentLink4Description: URL Link1; ComponentLink4URL: Samples URL:http://www.ti.com/product/pth04000w#samples
footprint TI-EUT6_V (Module, 6-Leads, Body 18.92x12.57mm)
pins: 1 GND (power) "This is the common ground connection for the VI and VO power connections. It is also the 0-VDC reference for the Inhibit , VO Adjust, and Track control inputs.", 2 TRACK (in) "This is an analog control input that enables the output voltage to follow an external voltage. This pin becomes active typically 20 ms after the input voltage has been applied, and allows direct control of the output voltage (See Datasheet)", 3 VI (power) "The positive input voltage power node to the module, which is referenced to common GND.", 4 ~{INHIBIT} (in) "The Inhibit pin is an open-collector/drain-negative logic input that is referenced to GND. Applying a low-level ground signal to this input disables the module's output. When the Inhibit control is active, the input current (See Datasheet)", 5 VO ADJUST (in) "A 1% resistor must be connected between this pin and GND (pin 1) to set the output voltage of the module higher than 0.9 V. If left open-circuit, the output voltage defaults to this value. The temperature stability of the (See Datasheet)", 6 VO (power) "The regulated positive power output with respect to the GND node."

## PTH04000WAZT
designator U?
3 A, 3.3 / 5 V Input Adjustable Switching Regulator with Auto-Track Sequencing, -40 to 85 degC, 6-pin Module (EUT6), Pb-Free (RoHS); Manufacturer: Texas Instruments; PartNumber: PTH04000WAZT; Iout(Max)(A): 3; Regulated Outputs(#): 1; SubFamily: Non-Isolated POL; Vin(Max)(V): 5.5; VO Adjustable: TRUE; Vout(Max)(V): 3.6; Vout(Min)(V): 0.9; DatasheetVersion: SLTS247B; PackageVersion: 4204991-3/C; PackageReference: EUT6; PackageDescription: 6-Pin Plastic Special Shape, Body 12.57 x 18.92 mm; Supplier 1: Digi-Key; Supplier Part Number 1: PTH04000WAZT-ND; Supplier 2: Newark; Supplier Part Number 2: 43K4061; Supplier 3: Mouser; Supplier Part Number 3: 595-PTH04000WAZT; Eco-Plan: Pb-Free (RoHS); Vin(Min)(V): 3; Mounting Technology: Surface Mount; ComponentLink1Description: Manufacturer URL; ComponentLink1URL: http://www.ti.com/; ComponentLink2Description: Datasheet; ComponentLink2URL: http://www.ti.com/general/docs/lit/getliterature.tsp?genericPartNumber=PTH04000W&fileType=pdf; ComponentLink3Description: Package Specification; ComponentLink3URL: http://www.ti.com/lit/ml/mpds214/mpds214.pdf; ComponentLink4Description: URL Link1; ComponentLink4URL: Samples URL:http://www.ti.com/product/pth04000w#samples
footprint TI-EUT6_V (Module, 6-Leads, Body 18.92x12.57mm)
pins: 1 GND (power) "This is the common ground connection for the VI and VO power connections. It is also the 0-VDC reference for the Inhibit , VO Adjust, and Track control inputs.", 2 TRACK (in) "This is an analog control input that enables the output voltage to follow an external voltage. This pin becomes active typically 20 ms after the input voltage has been applied, and allows direct control of the output voltage (See Datasheet)", 3 VI (power) "The positive input voltage power node to the module, which is referenced to common GND.", 4 ~{INHIBIT} (in) "The Inhibit pin is an open-collector/drain-negative logic input that is referenced to GND. Applying a low-level ground signal to this input disables the module's output. When the Inhibit control is active, the input current (See Datasheet)", 5 VO ADJUST (in) "A 1% resistor must be connected between this pin and GND (pin 1) to set the output voltage of the module higher than 0.9 V. If left open-circuit, the output voltage defaults to this value. The temperature stability of the (See Datasheet)", 6 VO (power) "The regulated positive power output with respect to the GND node."

## PTH04040WAD
designator U?
60 A, 3.3 / 5 V Input Non-Isolated Wide-Output Adjust Power Module, -40 to 85 degC, 20-pin Module (EVF20), Pb-Free (RoHS); Manufacturer: Texas Instruments; PartNumber: PTH04040WAD; Iout(Max)(A): 60; Regulated Outputs(#): 1; SubFamily: Non-Isolated POL; Vin(Max)(V): 5.5; Vin(Min)(V): 2.95; VO Adjustable: TRUE; Vout(Max)(V): 2.5; Vout(Min)(V): 0.8; DatasheetVersion: SLTS238C; PackageVersion: 4205911/A; PackageReference: EVF20; PackageDescription: 20-Pin Plastic Special Shape, Body 26.54 x 51.94 mm; Supplier 1: Digi-Key; Supplier Part Number 1: 296-20393-ND; Supplier 2: Newark; Supplier Part Number 2: 61K1474; Supplier 3: Mouser; Supplier Part Number 3: 595-PTH04040WAD; Eco-Plan: Pb-Free (RoHS); Mounting Technology: Through Hole; ComponentLink1Description: Manufacturer URL; ComponentLink1URL: http://www.ti.com/; ComponentLink2Description: Datasheet; ComponentLink2URL: http://www.ti.com/general/docs/lit/getliterature.tsp?genericPartNumber=PTH04040W&fileType=pdf; ComponentLink3Description: Package Specification; ComponentLink3URL: http://www.ti.com/litv/pdf/mpds166; ComponentLink4Description: URL Link1; ComponentLink4URL: Samples URL:http://www.ti.com/product/pth04040w#samples
footprint TI-EVF20_V (Module, 20-Leads, Body 51.94x26.54mm)
pins: 1 GND (power) "This is the common ground connection for the VI and VO power connections. It is also the 0 Vdc reference for the control inputs.", 2 VI (power) "The positive input voltage power node to the module, which is referenced to common GND.", 3 GND (power) "This is the common ground connection for the VI and VO power connections. It is also the 0 Vdc reference for the control inputs.", 4 VI (power) "The positive input voltage power node to the module, which is referenced to common GND.", 5 GND (power) "This is the common ground connection for the VI and VO power connections. It is also the 0 Vdc reference for the control inputs.", 6 VI (power) "The positive input voltage power node to the module, which is referenced to common GND.", 7 ~{INHIBIT} (in) "The Inhibit pin is an open-collector/drain negative logic input that is referenced to GND. Applying a low level ground signal to this input disables the module’s output and turns off the output voltage. When the Inhibit (See Datasheet)", 8 UVLO PROG (in) "Connecting a resistor from this pin to signal ground allows the on threshold of the input undervoltage lockout (UVLO) to be adjusted higher than the default value. The hysterisis can also be independently reduced by (See Datasheet)", 9 VO (power) "The regulated positive power output with respect to the GND node.", 10 GND (power) "This is the common ground connection for the VI and VO power connections. It is also the 0 Vdc reference for the control inputs.", 11 +SENSE (in) "The sense inputs allow the regulation circuit to compensate for voltage drop between the module and the load. For optimal voltage accuracy, +Sense should be connected to VO. If it is left open, a low-value internal resistor (See Datasheet)", 12 VO (power) "The regulated positive power output with respect to the GND node.", 13 GND (power) "This is the common ground connection for the VI and VO power connections. It is also the 0 Vdc reference for the control inputs.", 14 -SENSE (in) "For optimal voltage accuracy, -Sense should be connected to the ground return at the load. If it is left open, a low-value internal resistor ensures that the output remains in regulation.", 15 VO (power) "The regulated positive power output with respect to the GND node.", 16 GND (power) "This is the common ground connection for the VI and VO power connections. It is also the 0 Vdc reference for the control inputs.", 17 VO ADJUST (in) "A 1%, 0.05-W resistor must be connected between this pin and GND to set the output voltage higher than the minimum value. The set-point range for the output voltage is from 0.8 V to 2.5 V. The resistor required for a given (See Datasheet)", 18 TRACK (in) "This is an analog control input that allows the output voltage to follow another voltage during power up and power down sequences. The pin is active from 0 V, up to the nominal set-point voltage. Within this range, the (See Datasheet)", 19 ~{MARGIN UP} (in) "When this input is asserted to GND, the output voltage is increased by 5%. The input requires an open collector (open-drain) interface. It is not TTL compatible. The percent change can be reduced with a series resistor. For (See Datasheet)", 20 ~{MARGIN DOWN} (in) "When this input is asserted to GND, the output voltage is decreased by 5% from the nominal. The input requires an open-collector (open-drain) interface. It is not TTL compatible. A lower percent change can be accommodated (See Datasheet)"

## PTH04040WAH
designator U?
60 A, 3.3 / 5 V Input Non-Isolated Wide-Output Adjust Power Module, -40 to 85 degC, 20-pin Module (EVF20); Manufacturer: Texas Instruments; PartNumber: PTH04040WAH; Eco-Plan: TBD; Iout(Max)(A): 60; Regulated Outputs(#): 1; SubFamily: Non-Isolated POL; Vin(Max)(V): 5.5; Vin(Min)(V): 2.95; VO Adjustable: TRUE; Vout(Max)(V): 2.5; Vout(Min)(V): 0.8; DatasheetVersion: SLTS238C; PackageVersion: 4205911/A; PackageReference: EVF20; PackageDescription: 20-Pin Plastic Special Shape, Body 26.54 x 51.94 mm; Supplier 1: Digi-Key; Supplier Part Number 1: 296-20394-ND; Supplier 2: Newark; Supplier Part Number 2: 28K3816; Supplier 3: Mouser; Supplier Part Number 3: 595-PTH04040WAH; Mounting Technology: Through Hole; ComponentLink1Description: Manufacturer URL; ComponentLink1URL: http://www.ti.com/; ComponentLink2Description: Datasheet; ComponentLink2URL: http://www.ti.com/general/docs/lit/getliterature.tsp?genericPartNumber=PTH04040W&fileType=pdf; ComponentLink3Description: Package Specification; ComponentLink3URL: http://www.ti.com/litv/pdf/mpds166; ComponentLink4Description: URL Link1; ComponentLink4URL: Samples URL:http://www.ti.com/product/pth04040w#samples
footprint TI-EVF20_V (Module, 20-Leads, Body 51.94x26.54mm)
pins: 1 GND (power) "This is the common ground connection for the VI and VO power connections. It is also the 0 Vdc reference for the control inputs.", 2 VI (power) "The positive input voltage power node to the module, which is referenced to common GND.", 3 GND (power) "This is the common ground connection for the VI and VO power connections. It is also the 0 Vdc reference for the control inputs.", 4 VI (power) "The positive input voltage power node to the module, which is referenced to common GND.", 5 GND (power) "This is the common ground connection for the VI and VO power connections. It is also the 0 Vdc reference for the control inputs.", 6 VI (power) "The positive input voltage power node to the module, which is referenced to common GND.", 7 ~{INHIBIT} (in) "The Inhibit pin is an open-collector/drain negative logic input that is referenced to GND. Applying a low level ground signal to this input disables the module’s output and turns off the output voltage. When the Inhibit (See Datasheet)", 8 UVLO PROG (in) "Connecting a resistor from this pin to signal ground allows the on threshold of the input undervoltage lockout (UVLO) to be adjusted higher than the default value. The hysterisis can also be independently reduced by (See Datasheet)", 9 VO (power) "The regulated positive power output with respect to the GND node.", 10 GND (power) "This is the common ground connection for the VI and VO power connections. It is also the 0 Vdc reference for the control inputs.", 11 +SENSE (in) "The sense inputs allow the regulation circuit to compensate for voltage drop between the module and the load. For optimal voltage accuracy, +Sense should be connected to VO. If it is left open, a low-value internal resistor (See Datasheet)", 12 VO (power) "The regulated positive power output with respect to the GND node.", 13 GND (power) "This is the common ground connection for the VI and VO power connections. It is also the 0 Vdc reference for the control inputs.", 14 -SENSE (in) "For optimal voltage accuracy, -Sense should be connected to the ground return at the load. If it is left open, a low-value internal resistor ensures that the output remains in regulation.", 15 VO (power) "The regulated positive power output with respect to the GND node.", 16 GND (power) "This is the common ground connection for the VI and VO power connections. It is also the 0 Vdc reference for the control inputs.", 17 VO ADJUST (in) "A 1%, 0.05-W resistor must be connected between this pin and GND to set the output voltage higher than the minimum value. The set-point range for the output voltage is from 0.8 V to 2.5 V. The resistor required for a given (See Datasheet)", 18 TRACK (in) "This is an analog control input that allows the output voltage to follow another voltage during power up and power down sequences. The pin is active from 0 V, up to the nominal set-point voltage. Within this range, the (See Datasheet)", 19 ~{MARGIN UP} (in) "When this input is asserted to GND, the output voltage is increased by 5%. The input requires an open collector (open-drain) interface. It is not TTL compatible. The percent change can be reduced with a series resistor. For (See Datasheet)", 20 ~{MARGIN DOWN} (in) "When this input is asserted to GND, the output voltage is decreased by 5% from the nominal. The input requires an open-collector (open-drain) interface. It is not TTL compatible. A lower percent change can be accommodated (See Datasheet)"